# EAGLE library part CP2102N-A02-GQFN28R (library Oscilloscope Component Library)
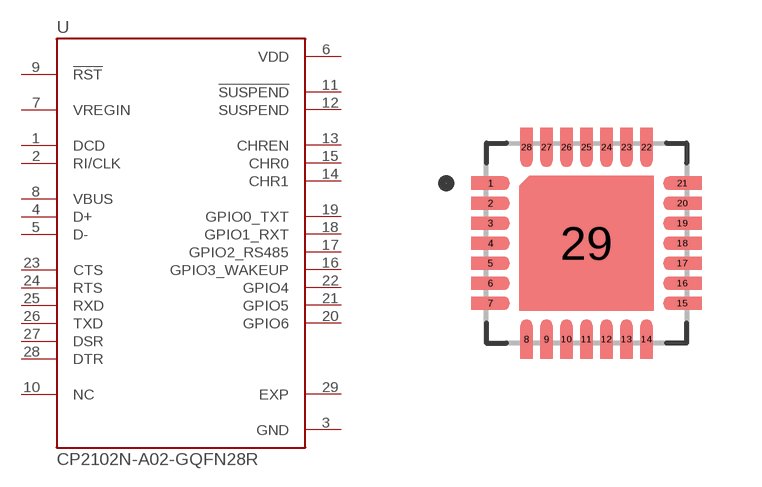
[diagram p5: symbol with the pads of IC_CP2102N-A02-GQFN28R; footprint IC_CP2102N-A02-GQFN28R]

Designator prefix U

## CP2102N-A02-GQFN28R (CHECK_PRICES: https://www.snapeda.com/parts/CP2102N-A02-GQFN28R/Silicon+Labs/view-part/?ref=eda; DESCRIPTION: USB Bridge, USB to UART USB 2.0 UART Interface 28-QFN (5x5); DIGIKEY_PART_NUMBER: 336-5890-2-ND; MF: Silicon Labs; MP: CP2102N-A02-GQFN28R; PACKAGE: None; PURCHASE-URL: https://www.snapeda.com/api/url_track_click_mouser/?unipart_id=3595518&manufacturer=Silicon Labs&part_name=CP2102N-A02-GQFN28R&search_term=None; SNAPEDA_LINK: https://www.snapeda.com/parts/CP2102N-A02-GQFN28R/Silicon+Labs/view-part/?ref=snap)  [IC_CP2102N-A02-GQFN28R]
1  DCD  in
2  RI/CLK
3  GND  pwr
4  D+
5  D-
6  VDD  pwr
7  VREGIN  in
8  VBUS  in
9  !RST  in
10  NC  nc
11  !SUSPEND  out
12  SUSPEND  out
13  CHREN  out
14  CHR1  out
15  CHR0  out
16  GPIO3_WAKEUP
17  GPIO2_RS485
18  GPIO1_RXT
19  GPIO0_TXT
20  GPIO6
21  GPIO5
22  GPIO4
23  CTS  in
24  RTS  out
25  RXD  in
26  TXD  out
27  DSR  in
28  DTR  out
29  EXP  pwr

## Footprint IC_CP2102N-A02-GQFN28R (pad centres in mm)
smd 0.25 x 0.25: 1 -2.4,1.5; 2 -2.4,1; 3 -2.4,0.5; 4 -2.4,0; 5 -2.4,-0.5; 6 -2.4,-1; 7 -2.4,-1.5; 8 -1.5,-2.4; 9 -1,-2.4; 10 -0.5,-2.4; 11 0,-2.4; 12 0.5,-2.4; 13 1,-2.4; 14 1.5,-2.4; 15 2.4,-1.5; 16 2.4,-1; 17 2.4,-0.5; 18 2.4,0; 19 2.4,0.5; 20 2.4,1; 21 2.4,1.5; 22 1.5,2.4; 23 1,2.4; 24 0.5,2.4; 25 0,2.4; 26 -0.5,2.4; 27 -1,2.4; 28 -1.5,2.4
smd 1.27 x 1.27: 29 0,0